# Altium schematic symbol library PC817C.SCHLIB: 1 symbol
Pins are listed as number, name and electrical type; pins without a type are passive.

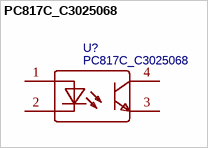
[diagram p0: symbol PC817C_C3025068]

## PC817C_C3025068
designator U?
Manufacturer: GOODWORK(固得沃克); Manufacturer Part: PC817C; Contributor: lcsc; Supplier: LCSC; Supplier Part: C3025068; JLCPCB Part Class: Extended Part; spicePre: U; spiceSymbolName: PC817C_C3025068
footprint DIP-4_L4.6-W6.5-P2.54-LS7.6-BL
pins: 1 AN, 2 CAT, 3 EM, 4 COL